# EAGLE library part 610X20243021 (library Eagle_BOARD-TO-BOARD_CONNECTORS (rev18b))
WR-PHD 2.54mm SMT Dual Socket Header Bottom Entry, 20 Pins=>Code : Con_BTB_SHD_2.54_2_610x20243021(x = 0: Tube x = 3: Tape & Reel with Cap) <http://katalog.we-online.de/media/images/eican/Con_BTB_SHD_2.54_2_6100xx243021_pf2.jpg> Details see: 6100xx243021 http://katalog.we-online.de/en/em/PHD_2_54_SMT_DUAL_SOCKET_HEADER_BOTTOM_ENTRY_6100XX243021 6103xx243021 http://katalog.we-online.de/en/em/PHD_2_54_SMT_DUAL_SOCKET_HEADER_BOTTOM_ENTRY_6103XX243021 2014 (C) Würth Elektronik
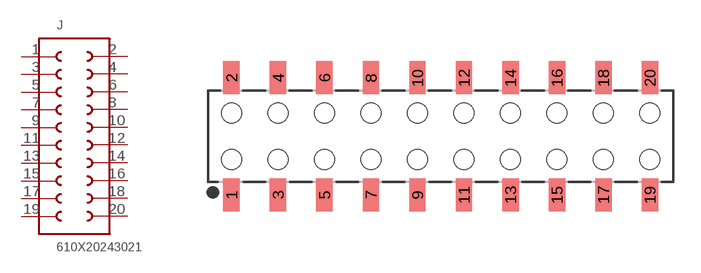
[diagram p182: symbol with the pads of 610X20243021; footprint 610X20243021]

Designator prefix J

## 610X20243021  [610X20243021]
1  20  pas
2  1  pas
3  19  pas
4  2  pas
5  18  pas
6  3  pas
7  17  pas
8  4  pas
9  16  pas
10  5  pas
11  15  pas
12  6  pas
13  14  pas
14  7  pas
15  13  pas
16  8  pas
17  12  pas
18  9  pas
19  11  pas
20  10  pas

## Footprint 610X20243021 (pad centres in mm)
WR-PHD 2.54mm SMT Dual Socket Header Bottom Entry, 20 Pins
smd 0.9 x 1.8: 1 -11.43,-3.2; 2 -11.43,3.2; 3 -8.89,-3.2; 4 -8.89,3.2; 5 -6.35,-3.2; 6 -6.35,3.2; 7 -3.81,-3.2; 8 -3.81,3.2; 9 -1.27,-3.2; 10 -1.27,3.2; 11 1.27,-3.2; 12 1.27,3.2; 13 3.81,-3.2; 14 3.81,3.2; 15 6.35,-3.2; 16 6.35,3.2; 17 8.89,-3.2; 18 8.89,3.2; 19 11.43,-3.2; 20 11.43,3.2
hole 1.1 at -11.43,1.27
hole 1.1 at -8.89,1.27
hole 1.1 at -8.89,-1.27
hole 1.1 at -11.43,-1.27
hole 1.1 at -6.35,1.27
hole 1.1 at -6.35,-1.27
hole 1.1 at -3.81,1.27
hole 1.1 at -3.81,-1.27
hole 1.1 at -1.27,-1.27
hole 1.1 at -1.27,1.27
hole 1.1 at 1.27,1.27
hole 1.1 at 1.27,-1.27
hole 1.1 at 3.81,-1.27
hole 1.1 at 3.81,1.27
hole 1.1 at 6.35,1.27
hole 1.1 at 6.35,-1.27
hole 1.1 at 8.89,1.27
hole 1.1 at 8.89,-1.27
hole 1.1 at 11.43,1.27
hole 1.1 at 11.43,-1.27